# EAGLE library part AVR-ICSP (library Quadcopter)
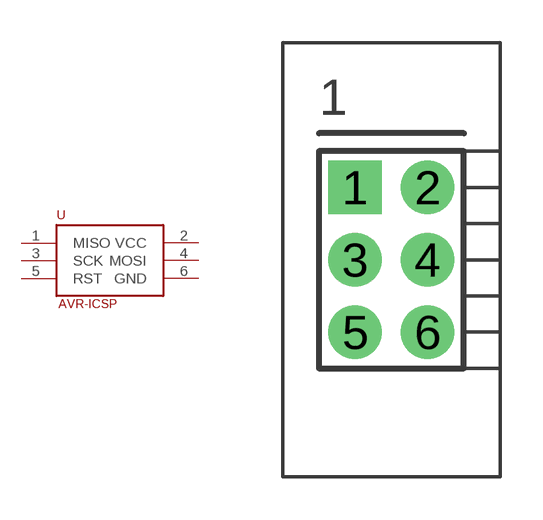
[diagram p1: symbol with the pads of AVR-ICSP; footprint AVR-ICSP]

Designator prefix -

## AVR-ICSP  [AVR-ICSP]
1  MISO
2  VCC
3  SCK
4  MOSI
5  RST
6  GND

## Footprint AVR-ICSP (pad centres in mm)
drill 1.016 pad 1.88 square: 1 -2.54,2.54
drill 1.016 pad 1.88 round: 2 0,2.54; 3 -2.54,0; 4 0,0; 5 -2.54,-2.54; 6 0,-2.54